# EAGLE library part 1PEEK08 (library con-odu_med)
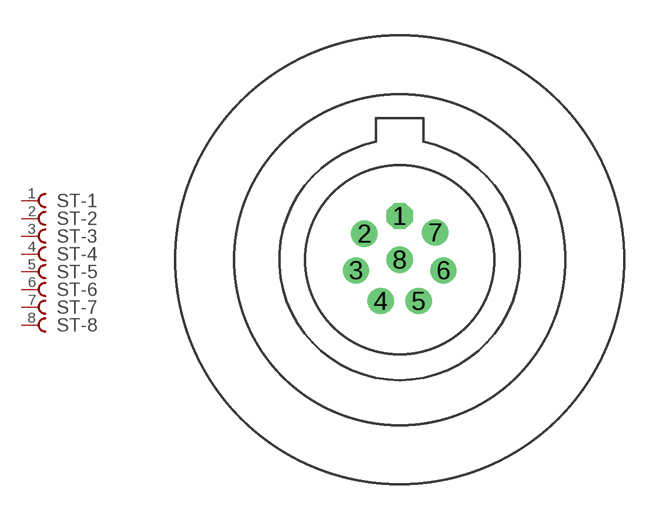
[diagram p2: symbol with the pads of 1PEEK08; footprint 1PEEK08]

Designator prefix ST; gates -1=KONTAKT -2=KONTAKT -3=KONTAKT -4=KONTAKT -5=KONTAKT -6=KONTAKT -7=KONTAKT -8=KONTAKT

## 1PEEK08  [1PEEK08]
1  -1:P$1  pas
2  -2:P$1  pas
3  -3:P$1  pas
4  -4:P$1  pas
5  -5:P$1  pas
6  -6:P$1  pas
7  -7:P$1  pas
8  -8:P$1  pas

## Footprint 1PEEK08 (pad centres in mm)
drill 0.6 octagon: 1 0,1.85
drill 0.6: 2 -1.5,1.1; 3 -1.85,-0.45; 4 -0.8,-1.75; 5 0.8,-1.75; 6 1.85,-0.45; 7 1.5,1.15; 8 0,0